# Altium footprint library CPAV.PcbLib: 150 footprints (part 1 of 10)
Each footprint in its own frame and in the unit in brackets; x right, y up, seen from the top. Pads: shape width x height; smd on the part's side, far side on the other; paste and mask are expansions set on the pad; w line width, h text height; cw(c..) or ccw(c..) is an arc to the next point about the centre after c.
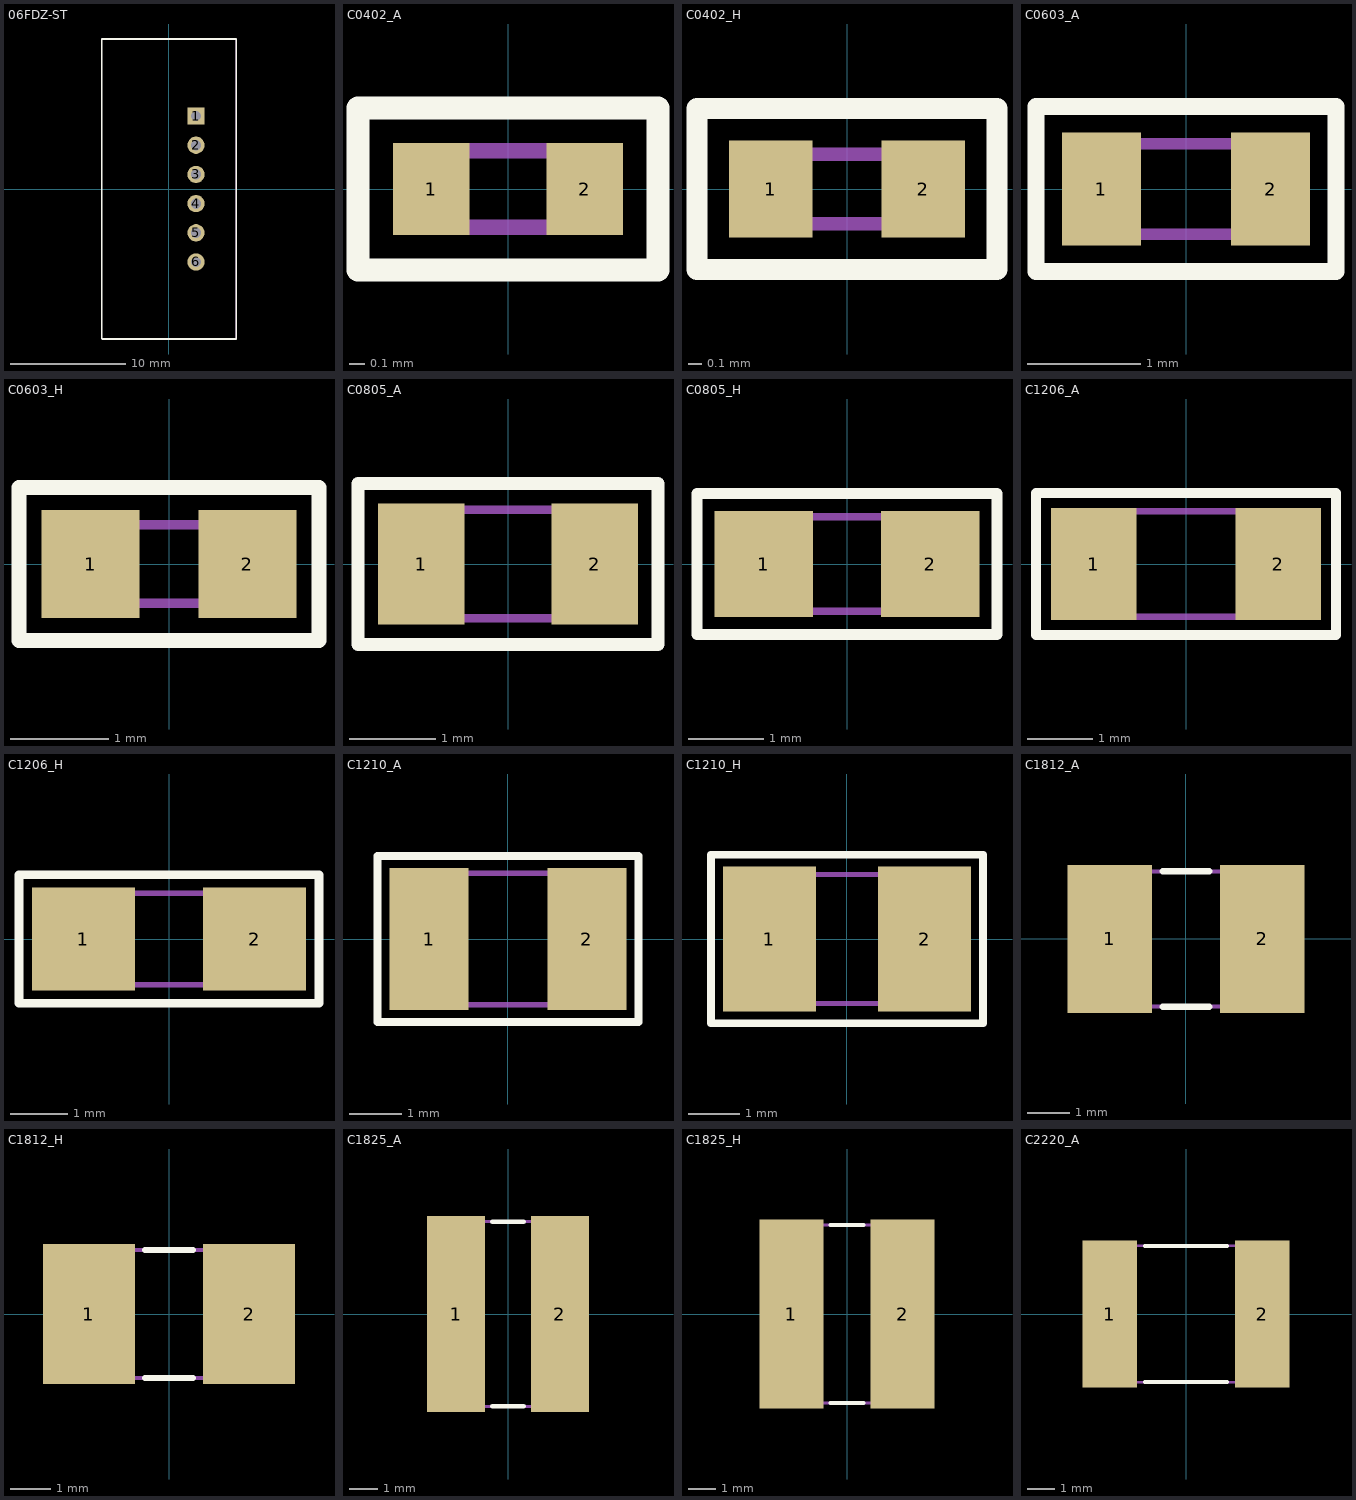
[diagram p0: the footprints below, top view; thin cyan lines are the x and y axes]

## 06FDZ-ST [mm]
pads (6):
  rect 1.5x1.5 hole 0.9: 1(2.35,6.35)
  round 1.5 hole 0.9: 2(2.35,3.81) 3(2.35,1.27) 4(2.35,-1.27) 5(2.35,-3.81) 6(2.35,-6.35)
Top Overlay:
  lines w0.15: -5.85,-13 -5.85,13.05 5.85,13.05 5.85,-13.05 -5.8,-13.05 -5.85,-13
Mechanical 7:
  lines w0.1: -5.85,-13.05 5.85,-13.05 5.85,13.05 -5.85,13.05 -5.85,-13.05
3D body: height 7.7, standoff 0, extent -5.85,-13.05 5.85,13.05

## C0402_A [mm]
height 0.55
pads (2):
  rect 0.5x0.6 smd: 1(-0.5,0) 2(0.5,0)
Top Overlay:
  lines w0.15: -0.98,-0.53 0.98,-0.53 0.98,0.53 -0.98,0.53 -0.98,-0.53
Mechanical 7:
  lines w0.1: -0.5,-0.25 -0.5,0.25 0.5,0.25 0.5,-0.25 -0.5,-0.25
Mechanical 10:
  text ".Comment" at -0.56,-1.1 h0.6
  text ".Designator" at -0.58,0.75 h0.8
3D body: height 0.55, standoff 0, extent -0.5,-0.25 0.5,0.25

## C0402_H [mm]
height 0.55
pads (2):
  rect 0.6x0.7 smd: 1(-0.55,0) 2(0.55,0)
Top Overlay:
  lines w0.15: -1.08,-0.58 1.08,-0.58 1.08,0.58 -1.08,0.58 -1.08,-0.58
Mechanical 7:
  lines w0.1: -0.5,-0.25 -0.5,0.25 0.5,0.25 0.5,-0.25 -0.5,-0.25
Mechanical 10:
  text ".Designator" at -0.58,0.75 h0.8
  text ".Comment" at -0.6,-1.12 h0.6
3D body: height 0.55, standoff 0, extent -0.5,-0.25 0.5,0.25

## C0603_A [mm]
height 0.9
pads (2):
  rect 0.7x1 smd: 1(-0.75,0) 2(0.75,0)
Top Overlay:
  lines w0.15: -1.33,-0.73 1.33,-0.73 1.33,0.73 -1.33,0.73 -1.33,-0.73
Mechanical 7:
  lines w0.1: -0.8,-0.4 -0.8,0.4 0.8,0.4 0.8,-0.4 -0.8,-0.4
Mechanical 10:
  text ".Designator" at -0.62,1 h0.8
  text ".Comment" at -0.75,-1.28 h0.6
3D body: height 0.9, standoff 0, extent -0.8,-0.4 0.8,0.4

## C0603_H [mm]
height 0.9
pads (2):
  rect 1x1.1 smd: 1(-0.8,0) 2(0.8,0)
Top Overlay:
  lines w0.15: -1.53,-0.78 -1.53,0.78 1.53,0.78 1.53,-0.78 -1.53,-0.78
Mechanical 7:
  lines w0.1: -0.8,-0.4 0.8,-0.4 0.8,0.4 -0.8,0.4 -0.8,-0.4
Mechanical 10:
  text ".Designator" at -0.62,1 h0.8
  text ".Comment" at -0.61,-1.33 h0.6
3D body: height 0.9, standoff 0, extent -0.8,-0.4 0.8,0.4

## C0805_A [mm]
height 1.3
pads (2):
  rect 1x1.4 smd: 1(-1,0) 2(1,0)
Top Overlay:
  lines w0.15: -1.73,-0.93 -1.73,0.93 1.73,0.93 1.73,-0.93 -1.73,-0.93
Mechanical 7:
  lines w0.1: -1,-0.625 1,-0.625 1,0.625 -1,0.625 -1,-0.625
Mechanical 10:
  text ".Designator" at -0.46,1.29 h0.8
  text ".Comment" at -0.59,-1.6 h0.6
3D body: height 1.3, standoff 0, extent -1,-0.625 1,0.625

## C0805_H [mm]
height 1.3
pads (2):
  rect 1.3x1.4 smd: 1(-1.1,0) 2(1.1,0)
Top Overlay:
  lines w0.15: -1.98,-0.93 1.98,-0.93 1.98,0.93 -1.98,0.93 -1.98,-0.93
Mechanical 7:
  lines w0.1: -1,-0.625 -1,0.625 1,0.625 1,-0.625 -1,-0.625
Mechanical 10:
  text ".Comment" at -0.45,-1.62 h0.6
  text ".Designator" at -0.47,1.37 h0.8
3D body: height 1.3, standoff 0, extent -1,-0.625 1,0.625

## C1206_A [mm]
height 1.5
pads (2):
  rect 1.3x1.7 smd: 1(-1.4,0) 2(1.4,0)
Top Overlay:
  lines w0.15: -2.28,-1.08 -2.28,1.08 2.28,1.08 2.28,-1.08 -2.28,-1.08
Mechanical 7:
  lines w0.1: -1.6,-0.8 1.6,-0.8 1.6,0.8 -1.6,0.8 -1.6,-0.8
Mechanical 10:
  text ".Comment" at -0.71,-1.67 h0.6
  text ".Designator" at -0.55,1.31 h0.8
3D body: height 1.5, standoff 0, extent -1.6,-0.8 1.6,0.8

## C1206_H [mm]
height 1.5
pads (2):
  rect 1.8x1.8 smd: 1(-1.5,0) 2(1.5,0)
Top Overlay:
  lines w0.15: -2.63,-1.13 -2.63,1.13 2.63,1.13 2.63,-1.13 -2.63,-1.13
Mechanical 7:
  lines w0.1: -1.6,-0.8 1.6,-0.8 1.6,0.8 -1.6,0.8 -1.6,-0.8
Mechanical 10:
  text ".Designator" at -0.55,1.31 h0.8
  text ".Comment" at -0.57,-1.8 h0.6
3D body: height 1.5, standoff 0, extent -1.6,-0.8 1.6,0.8

## C1210_A [mm]
height 2.5
pads (2):
  rect 1.5x2.7 smd: 1(-1.5,0) 2(1.5,0)
Top Overlay:
  lines w0.15: -2.48,-1.58 2.48,-1.58 2.48,1.58 -2.48,1.58 -2.48,-1.58
Mechanical 7:
  lines w0.1: -1.6,-1.25 -1.6,1.25 1.6,1.25 1.6,-1.25 -1.6,-1.25
Mechanical 10:
  text ".Comment" at -0.74,-2.23 h0.6
  text ".Designator" at -0.71,1.89 h0.8
3D body: height 2.5, standoff 0, extent -1.6,-1.25 1.6,1.25

## C1210_H [mm]
height 2.5
pads (2):
  rect 1.8x2.8 smd: 1(-1.5,0) 2(1.5,0)
Top Overlay:
  lines w0.15: -2.63,-1.63 2.63,-1.63 2.63,1.63 -2.63,1.63 -2.63,-1.63
Mechanical 7:
  lines w0.1: -1.6,-1.25 -1.6,1.25 1.6,1.25 1.6,-1.25 -1.6,-1.25
Mechanical 10:
  text ".Comment" at -0.69,-2.29 h0.6
  text ".Designator" at -0.71,1.89 h0.8
3D body: height 2.5, standoff 0, extent -1.6,-1.25 1.6,1.25

## C1812_A [mm]
height 1.7
pads (2):
  rect 2x3.5 smd: 1(-1.8,0) 2(1.8,0)
Top Overlay:
  lines w0.15: -0.55,-1.6 0.55,-1.6 ; -0.55,1.6 0.55,1.6
Mechanical 7:
  lines w0.1: -2.25,-1.6 2.25,-1.6 2.25,1.6 -2.25,1.6 -2.25,-1.6
Mechanical 10:
  text ".Comment" at -0.52,-2.51 h0.6
  text ".Designator" at -0.62,2.14 h0.8
3D body: height 1.7, standoff 0, extent -2.25,-1.6 2.25,1.6

## C1812_H [mm]
height 1.7
pads (2):
  rect 2.3x3.5 smd: 1(-2,0) 2(2,0)
Top Overlay:
  lines w0.15: -0.6,-1.6 0.6,-1.6 ; -0.6,1.6 0.6,1.6
Mechanical 7:
  lines w0.1: -2.25,-1.6 -2.25,1.6 2.25,1.6 2.25,-1.6 -2.25,-1.6
Mechanical 10:
  text ".Comment" at -0.63,-2.52 h0.6
  text ".Designator" at -0.62,2.14 h0.8
3D body: height 1.7, standoff 0, extent -2.25,-1.6 2.25,1.6

## C1825_A [mm]
height 1.7
pads (2):
  rect 2x6.8 smd: 1(-1.8,0) 2(1.8,0)
Top Overlay:
  lines w0.15: -0.55,-3.2 0.55,-3.2 ; -0.55,3.2 0.55,3.2
Mechanical 7:
  lines w0.1: -2.25,-3.2 -2.25,3.2 2.25,3.2 2.25,-3.2 -2.25,-3.2
Mechanical 10:
  text ".Comment" at -0.58,-4.11 h0.6
  text ".Designator" at -0.69,3.88 h0.8
3D body: height 1.7, standoff 0, extent -2.25,-3.2 2.25,3.2

## C1825_H [mm]
height 1.7
pads (2):
  rect 2.3x6.8 smd: 1(-2,0) 2(2,0)
Top Overlay:
  lines w0.15: -0.6,-3.2 0.6,-3.2 ; -0.6,3.2 0.6,3.2
Mechanical 7:
  lines w0.1: -2.25,-3.2 -2.25,3.2 2.25,3.2 2.25,-3.2 -2.25,-3.2
Mechanical 10:
  text ".Comment" at -0.62,-4.23 h0.6
  text ".Designator" at -0.69,3.88 h0.8
3D body: height 1.7, standoff 0, extent -2.25,-3.2 2.25,3.2

## C2220_A [mm]
height 1.8
pads (2):
  rect 2x5.4 smd: 1(-2.8,0) 2(2.8,0)
Top Overlay:
  lines w0.15: -1.5,-2.5 1.5,-2.5 ; -1.5,2.5 1.5,2.5
Mechanical 7:
  lines w0.1: -2.8,-2.5 2.8,-2.5 2.8,2.5 -2.8,2.5 -2.8,-2.5
Mechanical 10:
  text ".Comment" at -0.5,-3.49 h0.6
  text ".Designator" at -0.56,3.04 h0.8
3D body: height 1.8, standoff 0, extent -2.8,-2.5 2.8,2.5